# Altium footprint library SM_L_1206.PcbLib: 1 footprints
Each footprint in its own frame and in the unit in brackets; x right, y up, seen from the top. Pads: shape width x height; smd on the part's side, far side on the other; paste and mask are expansions set on the pad; w line width, h text height; cw(c..) or ccw(c..) is an arc to the next point about the centre after c.
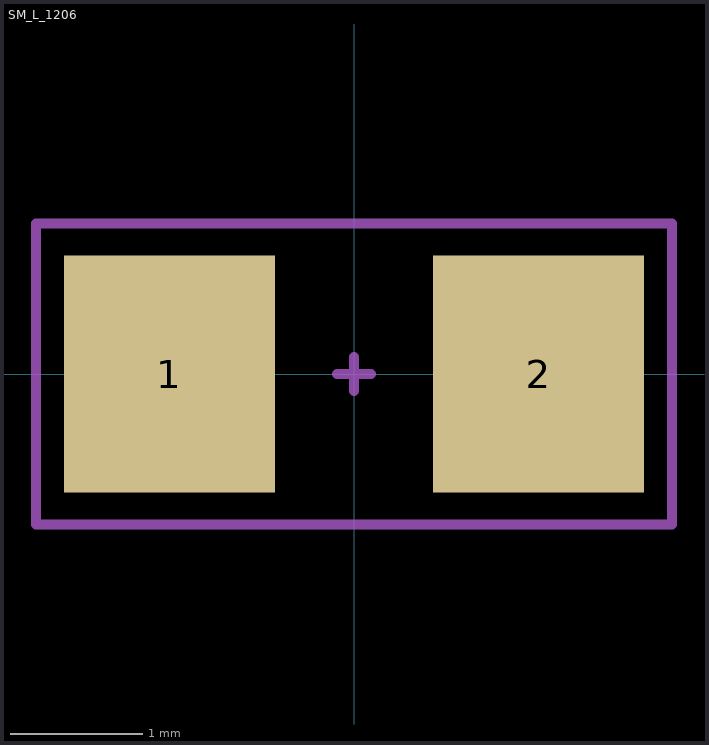
[diagram p0: the footprint, top view; thin cyan lines are the x and y axes]

## SM_L_1206 [mm] "Chip Ferrite; Body 3.2 x 1.6 mm (LxW typ)"
height 0.71
pads (2):
  rect 1.6x1.8 smd: 1(-1.4,0) 2(1.4,0)
Mechanical 15:
  lines w0.076: -0.127,0 0.127,0 ; 0,-0.127 0,0.127 ; -2.413,-1.143 2.413,-1.143 2.413,1.143 -2.413,1.143 -2.413,-1.143
3D body: height 1.07, standoff 0, extent 1.2,-0.825 1.6,0.825
3D body: height 1.07, standoff 0, extent -1.6,-0.825 -1.2,0.825
3D body: height 1.04, standoff 0, extent -1.575,-0.8 1.575,0.8